# Altium footprint library RBM_PCB-Lib_11-Mar-19.PcbLib: 48 footprints (part 3 of 3)
Each footprint in its own frame and in the unit in brackets; x right, y up, seen from the top. Pads: shape width x height; smd on the part's side, far side on the other; paste and mask are expansions set on the pad; w line width, h text height; cw(c..) or ccw(c..) is an arc to the next point about the centre after c.
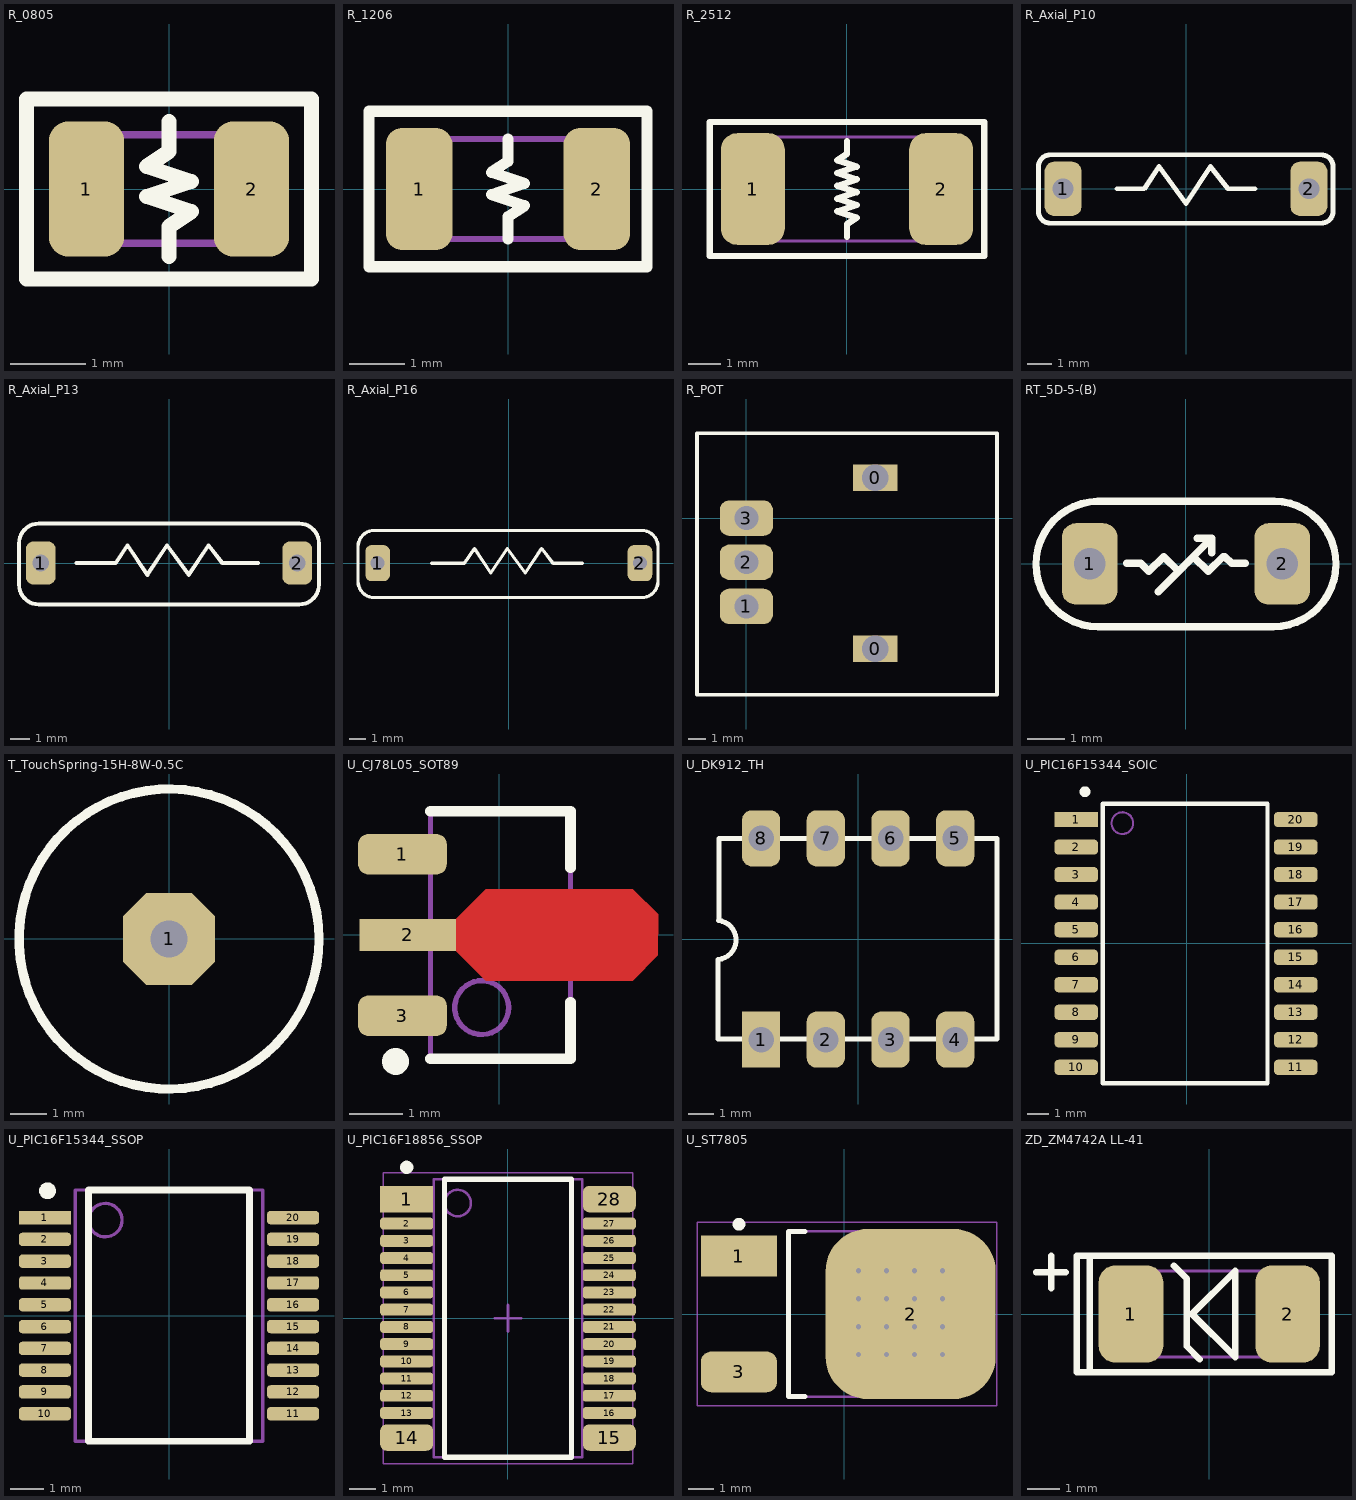
[diagram p2: the footprints below, top view; thin cyan lines are the x and y axes]

## R_0805 [mm]
height 0.65
pads (2):
  rrect50% 1x1.8 smd: 1(-1.1,0) 2(1.1,0)
Top Overlay:
  lines w0.2: 0,-0.9 0,-0.5 0.3,-0.3 -0.3,-0.1 0.3,0.1 -0.3,0.3 0,0.5 0,0.9 ; -1.9,-1.2 -1.9,1.2 1.9,1.2 1.9,-1.2 -1.9,-1.2
Mechanical 13:
  lines w0.1: -1.1,-0.725 1.1,-0.725 1.1,0.725 -1.1,0.725 -1.1,-0.725
3D body "R_0805.step": height 0.65, standoff 0, extent -1.1,-0.725 1.1,0.725

## R_1206 [mm]
height 0.65
pads (2):
  rrect50% 1.2x2.2 smd: 1(-1.6,0) 2(1.6,0)
Top Overlay:
  lines w0.2: 0,-0.9 0,-0.5 0.3,-0.3 -0.3,-0.1 0.3,0.1 -0.3,0.3 0,0.5 0,0.9 ; -2.5,-1.4 2.5,-1.4 2.5,1.4 -2.5,1.4 -2.5,-1.4
Mechanical 13:
  lines w0.1: -1.65,-0.9 -1.65,0.9 1.65,0.9 1.65,-0.9 -1.65,-0.9
3D body "R_1206.step": height 0.65, standoff 0, extent -1.65,-0.9 1.65,0.9

## R_2512 [mm] "Chip Resistor, 2-Leads, Body 6.35x3.10mm, IPC Medium Density"
height 0.65
pads (2):
  rrect50% 2x3.5 smd: 1(-2.95,0) 2(2.95,0)
Top Overlay:
  lines w0.2: 0,-1.5 0,-1.1 0.3,-0.9 -0.3,-0.7 0.3,-0.5 -0.3,-0.3 0.3,-0.1 -0.3,0.1 0.3,0.3 -0.3,0.5 0.3,0.7 -0.3,0.9 0,1.1 0,1.5 ; -4.3,-2.1 -4.3,2.1 4.3,2.1 4.3,-2.1 -4.3,-2.1
Mechanical 13:
  lines w0.1: -3.275,-1.625 -3.275,1.625 3.275,1.625 3.275,-1.625 -3.275,-1.625
3D body "R_2512.step": height 0.65, standoff 0, extent -3.275,-1.625 3.275,1.625

## R_Axial_P10 [mm] "Axial 680kO 1/4W 1%"
pads (2):
  rrect50% 1.5x2.2 hole 0.85: 1(-5,0) 2(5,0)
Top Overlay:
  lines w0.2: -5.517,1.383 ccw(c-5.517,0.9) -6,0.9 -6,-0.917 ccw(c-5.517,-0.917) -5.517,-1.4 5.5,-1.4 ccw(c5.5,-0.917) 5.983,-0.917 5.983,0.9 ccw(c5.5,0.9) 5.5,1.383 -5.476,1.383 ; -2.8,0 -1.7,0 -1.1,0.9 0,-0.6 1,0.9 1.7,0 2.8,0
3D body "User Library-Res40-Axial 0_25W-2_2R.step": height 2.41, standoff -2, extent -5.38,-1.2 5.38,1.2

## R_Axial_P13 [mm] "220 ohm 2W 1%"
pads (2):
  rrect50% 1.5x2.2 hole 0.85: 1(-6.5,0) 2(6.5,0)
Top Overlay:
  lines w0.2: -4.7,0 -2.7,0 -2.1,0.9 -1.1,-0.6 -0.1,0.9 1,-0.6 2,0.9 2.7,0 4.5,0 ; -7.6,-1.1 ccw(c-6.6,-1.1) -6.6,-2.1 -5.7,-2.1 6.6,-2.1 ccw(c6.6,-1.1) 7.6,-1.1 7.6,1 ccw(c6.6,1) 6.6,2 -6.6,2 ccw(c-6.6,1) -7.6,1 -7.6,-1.1
3D body "User Library-Res50-Axial 0_5W-2_2K.step": height 5.87, standoff -3.5, extent -6.725,-1.875 6.725,1.875

## R_Axial_P16 [mm] "220 ohm 2W 1%"
pads (2):
  rrect50% 1.5x2.2 hole 0.85: 1(-8,0) 2(8,0)
Top Overlay:
  lines w0.2: -4.7,0 -2.7,0 -2.1,0.9 -1.1,-0.6 -0.1,0.9 1,-0.6 2,0.9 2.7,0 4.5,0 ; -9.2,-1.1 ccw(c-8.2,-1.1) -8.2,-2.1 -5.7,-2.1 8.1,-2.1 ccw(c8.1,-1.1) 9.1,-1.1 9.1,1 ccw(c8.1,1) 8.1,2 -8.2,2 ccw(c-8.2,1) -9.2,1 -9.2,-1.1
3D body "User Library-Res50-Axial 0_5W-2_2K.step": height 5.87, standoff -3.5, extent -6.725,-1.875 6.725,1.875

## R_POT [mm]
pads (5):
  rect 2.5x1.5 hole 1.5 square unplated: 0(7.3,-7.4) 0(7.3,2.3)
  rrect50% 3x2 hole 1.35: 1(0,-5) 2(0,-2.5) 3(0,0)
Top Overlay:
  lines w0.2: -2.8,-10 -2.8,4.8 14.2,4.8 14.2,-10 -2.8,-10
3D body "SW3dPS-Potentiometer 250U.STEP": height 15.26, standoff -3.8, extent -0.075,-7.452 12.475,2.3

## RT_5D-5-(B) [mm]
pads (2):
  rrect50% 1.5x2.2 hole 0.85: 1(-2.6,0) 2(2.6,0)
Top Overlay:
  lines w0.1: -1.229,0.018 -1.218,0.018 ; 1,0.2 1.049,0.2 ; -0.6,0.2 -0.6,0.2 ; 0.6,-0.2 0.6,-0.2
  lines w0.2: -2.384,1.691 ccw(c-2.353,-0.005) -2.371,-1.7 ; -2.384,1.692 2.38,1.692 ; -2.353,-1.694 2.355,-1.694 ; -1.6,0.018 -1.229,0.018 ; -1.218,0.018 -1,-0.2 -0.6,0.2 -0.2,-0.2 0.2,0.2 0.6,-0.2 1,0.2 ; -0.75,-0.75 0.7,0.7 ; 0.3,0.7 0.7,0.7 ; 0.7,0.3 0.7,0.7 ; 1.049,0.2 1.232,0.018 1.6,0.018 ; 2.347,-1.694 ccw(c2.355,0.002) 2.38,1.698
3D body: height 4, standoff 1, extent 2.302,-0.299 2.9,0.3
3D body: height 4, standoff 1, extent -2.9,-0.3 -2.302,0.299
3D body: height 6.75, standoff 1.25, extent -2.752,-1.638 2.748,1.692
3D body: height 2, standoff -1, extent 2.327,-0.274 2.875,0.275
3D body: height 2, standoff -1, extent -2.874,-0.274 -2.326,0.274

## T_TouchSpring-15H-8W-0.5C [mm]
pads (1):
  oct 2.5x2.5 hole 1: 1(0,0)
Top Overlay:
  circle w0.254: c0,0 r4.09
3D body: height 3, standoff -3, extent 0,0 0,0
3D body: height 15, standoff 0, extent -4,-3.997 4,3.997
3D body: height 3, standoff -3, extent -0.258,-0.259 0.26,0.26

## U_CJ78L05_SOT89 [mm] "SOT89, 3-Leads, Body 4.50x2.45mm, Pitch 1.50mm, Lead Span 4.1mm - Reverse Pinning, IPC Medium Density"
height 1.6
pads (3):
  rrect50% 1.65x0.75 smd: 1(-1.8,1.5) 3(-1.8,-1.5)
  rect 1.8x0.6 smd: 2(-1.7,0)
Top Layer:
  region: -0.8,0.3 -0.25,0.85 2.479,0.85 2.948,0.381 2.948,-0.381 2.479,-0.85 -0.25,-0.85 -0.8,-0.3
Top Overlay:
  circle w0.25: c-1.927,-2.35 r0.125
  lines w0.2: -1.278,-2.3 1.322,-2.3 1.322,-1.25 ; -1.278,2.3 1.322,2.3 1.322,1.25
Mechanical 13:
  circle w0.1: c-0.327,-1.35 r0.5
  lines w0.1: -1.278,-2.3 -1.278,2.3 1.322,2.3 1.322,-2.3 -1.278,-2.3
3D body "SOT89R-150P410X160-3N.step": height 1.6, standoff 0, extent -2.2,-2.3 1.8,2.3

## U_DK912_TH [mm]
pads (8):
  rect 1.5x2.2 hole 1: 1(-3.81,-3.95)
  rrect50% 1.5x2.2 hole 1: 2(-1.27,-3.95) 3(1.27,-3.95) 4(3.81,-3.95) 5(3.81,3.95) 6(1.27,3.95) 7(-1.27,3.95) 8(-3.81,3.95)
Top Overlay:
  lines w0.2: -5.5,-0.8 -5.5,-3.92 5.45,-3.92 5.45,3.95 -5.47,3.95 -5.47,0.724 ; -5.471,0.724 cw(c-5.559,-0.038) -5.47,-0.8
3D body "SW3DPS-DIP 8 IC-DEFAULT.STEP": height 5.58, standoff -3, extent -5.47,-3.92 5.45,3.95

## U_PIC16F15344_SOIC [mm] "SOIC, 20-Leads, Body 12.80x7.50mm, Pitch 1.27mm, IPC Medium Density"
height 2.65
pads (20):
  rect 2x0.7 smd mask+0.3: 1(-5.1,5.715)
  rrect50% 2x0.7 smd mask+0.3: 2(-5.1,4.445) 3(-5.1,3.175) 4(-5.1,1.905) 5(-5.1,0.635) 6(-5.1,-0.635) 7(-5.1,-1.905) 8(-5.1,-3.175) 9(-5.1,-4.445) 10(-5.1,-5.715) 11(5.025,-5.715) 12(5.025,-4.445) 13(5.025,-3.175) 14(5.025,-1.905) 15(5.025,-0.635) 16(5.025,0.635) 17(5.025,1.905) 18(5.025,3.175) 19(5.025,4.445)
  rrect50% 2x0.7 smd paste+0 mask+0.3: 20(5.025,5.715)
Top Overlay:
  circle w0.25: c-4.7,7 r0.125
  lines w0.2: -3.875,-6.45 3.725,-6.45 3.725,6.45 -3.875,6.45 -3.875,-6.45
Mechanical 13:
  circle w0.1: c-2.975,5.55 r0.5
  lines w0.1: -3.875,-6.45 3.725,-6.45 3.725,6.45 -3.875,6.45 -3.875,-6.45
3D body "SOIC127P1020X265-20N.step": height 2.65, standoff 0, extent -5.1,-6.425 5.05,6.475

## U_PIC16F15344_SSOP [mm] "SOP, 20-Leads, Body 7.20x5.30mm, Pitch 0.65mm, IPC Medium Density"
height 2
pads (20):
  rect 1.55x0.4 smd mask+0.2: 1(-3.7,2.925)
  rrect50% 1.55x0.4 smd mask+0.2: 2(-3.7,2.275) 3(-3.7,1.625) 4(-3.7,0.975) 5(-3.7,0.325) 6(-3.7,-0.325) 7(-3.7,-0.975) 8(-3.7,-1.625) 9(-3.7,-2.275) 10(-3.7,-2.925) 11(3.7,-2.925) 12(3.7,-2.275) 13(3.7,-1.625) 14(3.7,-0.975) 15(3.7,-0.325) 16(3.7,0.325) 17(3.7,0.975) 18(3.7,1.625) 19(3.7,2.275) 20(3.7,2.925)
Top Overlay:
  circle w0.25: c-3.625,3.725 r0.125
  lines w0.2: -2.4,-3.75 2.4,-3.75 2.4,3.75 -2.4,3.75 -2.4,-3.75
Mechanical 13:
  circle w0.1: c-1.9,2.85 r0.5
  lines w0.1: -2.8,-3.75 2.8,-3.75 2.8,3.75 -2.8,3.75 -2.8,-3.75
3D body "SOP65P780X200-20N.step": height 2, standoff 0, extent -3.9,-3.75 3.9,3.75

## U_PIC16F18856_SSOP [mm] "SOP, 28-Leads, Body 10.20x5.30mm, Pitch 0.65mm, Thermal Pad 8.00x4.00mm, IPC Medium Density"
height 2
pads (28):
  rect 2x1 smd mask+0.15: 1(-3.825,4.5)
  rrect50% 2x0.45 smd mask+0.15: 2(-3.825,3.575) 3(-3.825,2.925) 4(-3.825,2.275) 5(-3.825,1.625) 6(-3.825,0.975) 7(-3.825,0.325) 8(-3.825,-0.325) 9(-3.825,-0.975) 10(-3.825,-1.625) 11(-3.825,-2.275) 12(-3.825,-2.925) 13(-3.825,-3.575) 16(3.825,-3.575) 17(3.825,-2.925) 18(3.825,-2.275) 19(3.825,-1.625) 20(3.825,-0.975) 21(3.825,-0.325) 22(3.825,0.325) 23(3.825,0.975) 24(3.825,1.625) 25(3.825,2.275) 26(3.825,2.925) 27(3.825,3.575)
  rrect50% 2x1 smd mask+0.15: 14(-3.825,-4.5) 15(3.825,-4.5) 28(3.825,4.5)
Top Overlay:
  circle w0.25: c-3.825,5.7 r0.125
  lines w0.2: -2.4,-5.25 -2.4,5.25 2.4,5.25 2.4,-5.25 -2.4,-5.25
Assembly Top:
  circle w0.1: c-1.9,4.35 r0.5
  lines w0.1: -2.8,-5.25 -2.8,5.25 2.8,5.25 2.8,-5.25 -2.8,-5.25
Courtyard Top:
  lines w0.05: -4.7,-5.5 -4.7,5.5 4.7,5.5 4.7,-5.5 -4.7,-5.5
  lines w0.1: -0.5,0 0.5,0 ; 0,-0.5 0,0.5
3D body "U_PIC16F18856_SSOP.step": height 2, standoff 0, extent -3.9,-5.25 3.9,5.25

## U_ST7805 [mm] "D-PAK, 3-Pads, Body 6.20x6.61mm (max), IPC Medium Density"
height 2.4
pads (3):
  rect 3x1.6 smd: 1(-4.15,2.28)
  rrect50% 6.7x6.7 smd: 2(2.6,0)
  rrect50% 3x1.6 smd: 3(-4.15,-2.28)
via 3.85,-1.6 diameter 0.5 hole 0.2
via 2.75,-1.6 diameter 0.5 hole 0.2
via 1.65,-1.6 diameter 0.5 hole 0.2
via 3.85,-0.5 diameter 0.5 hole 0.2
via 2.75,-0.5 diameter 0.5 hole 0.2
via 1.65,-0.5 diameter 0.5 hole 0.2
via 3.85,0.6 diameter 0.5 hole 0.2
via 2.75,0.6 diameter 0.5 hole 0.2
via 1.65,0.6 diameter 0.5 hole 0.2
via 0.55,1.7 diameter 0.5 hole 0.2
via 1.65,1.7 diameter 0.5 hole 0.2
via 2.75,1.7 diameter 0.5 hole 0.2
via 3.85,1.7 diameter 0.5 hole 0.2
via 0.55,0.6 diameter 0.5 hole 0.2
via 0.55,-0.5 diameter 0.5 hole 0.2
via 0.55,-1.6 diameter 0.5 hole 0.2
Top Overlay:
  circle w0.25: c-4.15,3.53 r0.125
  lines w0.2: -1.55,-3.25 -2.2,-3.25 -2.2,3.25 -1.55,3.25
Mechanical 13:
  lines w0.1: -2.2,-3.25 4,-3.25 4,3.25 -2.2,3.25 -2.2,-3.25
Mechanical 15:
  lines w0.05: -5.8,-3.6 6,-3.6 6,3.6 -5.8,3.6 -5.8,-3.6
  lines w0.1: -0.5,0 0.5,0 ; 0,-0.5 0,0.5
3D body "ST7805.step": height 2.5, standoff 0, extent -4.275,-3.25 5.45,3.25

## ZD_ZM4742A LL-41 [mm]
height 2.67
pads (2):
  rrect50% 2x3 smd: 1(-2.425,0) 2(2.425,0)
Top Overlay:
  lines w0.2: -5.367,1.3 -4.451,1.3 ; -4.9,0.8 -4.9,1.8 ; -3.7,-1.8 -3.7,1.8 ; -1.1,1.5 -0.7,1.1 -0.7,-1 -0.3,-1.4 ; -4.1,-1.8 -4.1,1.8 3.8,1.8 3.8,-1.8 -4.1,-1.8 ; -0.535,0 0.8,1.335 0.8,-1.335 -0.535,0
Mechanical 13:
  lines w0.1: -2.75,-1.335 -2.75,1.335 2.75,1.335 2.75,-1.335 -2.75,-1.335
3D body "ZD.step": height 2.46, standoff 0.01, extent -2.575,-1.227 2.575,1.228